# Altium footprint library 1842461.PcbLib: 1 footprints
Each footprint in its own frame and in the unit in brackets; x right, y up, seen from the top. Pads: shape width x height; smd on the part's side, far side on the other; paste and mask are expansions set on the pad; w line width, h text height; cw(c..) or ccw(c..) is an arc to the next point about the centre after c.
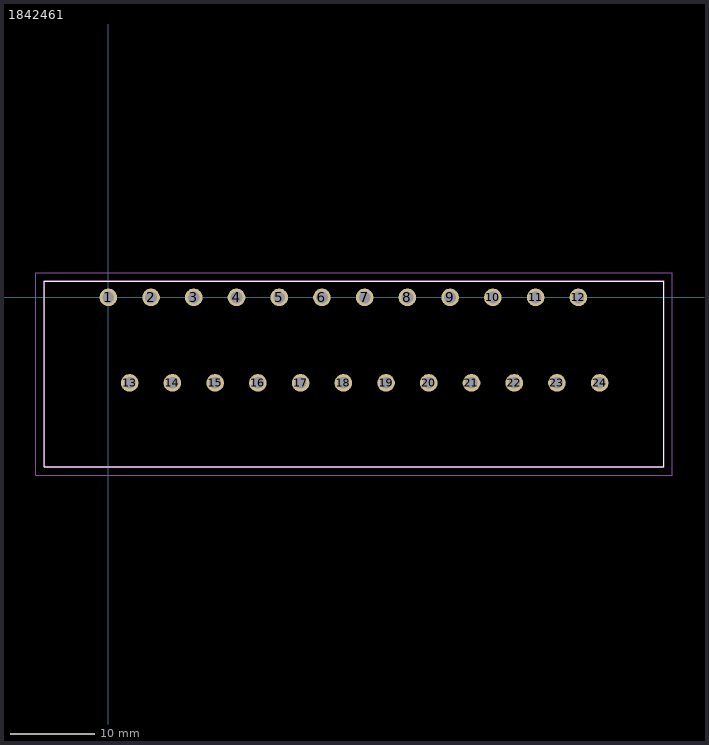
[diagram p0: the footprint, top view; thin cyan lines are the x and y axes]

## 1842461 [mm]
pads (24):
  round 2.1 hole 1.4: 1(0,0) 2(5.08,0) 3(10.16,0) 4(15.24,0) 5(20.32,0) 6(25.4,0) 7(30.48,0) 8(35.56,0) 9(40.64,0) 10(45.72,0) 11(50.8,0) 12(55.88,0) 13(2.54,-10.16) 14(7.62,-10.16) 15(12.7,-10.16) 16(17.78,-10.16) 17(22.86,-10.16) 18(27.94,-10.16) 19(33.02,-10.16) 20(38.1,-10.16) 21(43.18,-10.16) 22(48.26,-10.16) 23(53.34,-10.16) 24(58.42,-10.16)
Top Overlay:
  lines w0.1: -7.62,-20.16 -7.62,1.94 66.04,1.94 66.04,-20.16 -7.62,-20.16
Mechanical 15:
  lines w0.2: -7.62,-20.16 -7.62,1.94 66.04,1.94 66.04,-20.16 -7.62,-20.16
Mechanical 20:
  lines w0.1: -8.62,-21.16 -8.62,2.94 67.04,2.94 67.04,-21.16 -8.62,-21.16
3D body "pxc_1842461_07_00_MDSTB-2-5-12-GF-5-08_3D.stp": height 23.7, standoff -3.5, extent -7.747,-20.066 65.913,2.034